# Altium schematic symbol library PLAY.SchLib: 4 symbols
Pins are listed as number, name and electrical type; pins without a type are passive.

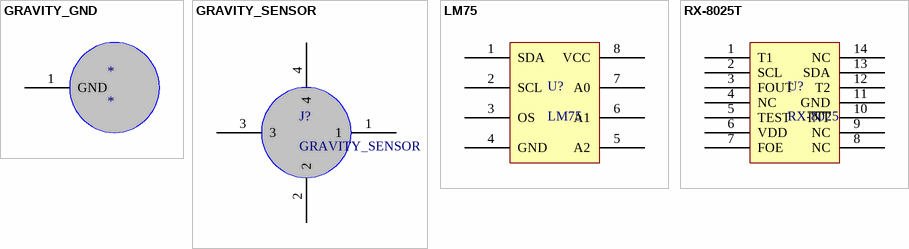
[diagram p0: symbols GRAVITY_GND to RX-8025T]

## GRAVITY_GND
designator *
pins: 1 GND

## GRAVITY_SENSOR
designator J?
pins: 1, 2, 3, 4

## LM75
designator U?
pins: 1 SDA, 2 SCL, 3 OS, 4 GND, 5 A2, 6 A1, 7 A0, 8 VCC

## RX-8025T
designator U?, comment RX-8025
pins: 1 T1, 2 SCL, 3 FOUT, 4 NC, 5 TEST, 6 VDD, 7 FOE, 8 NC, 9 NC, 10 ~{INT}, 11 GND, 12 T2, 13 SDA, 14 NC